# Altium footprint library PCB - RELAY - PANASONIC APAN31nn PA-N.PCBLIB: 1 footprints
Each footprint in its own frame and in the unit in brackets; x right, y up, seen from the top. Pads: shape width x height; smd on the part's side, far side on the other; paste and mask are expansions set on the pad; w line width, h text height; cw(c..) or ccw(c..) is an arc to the next point about the centre after c.
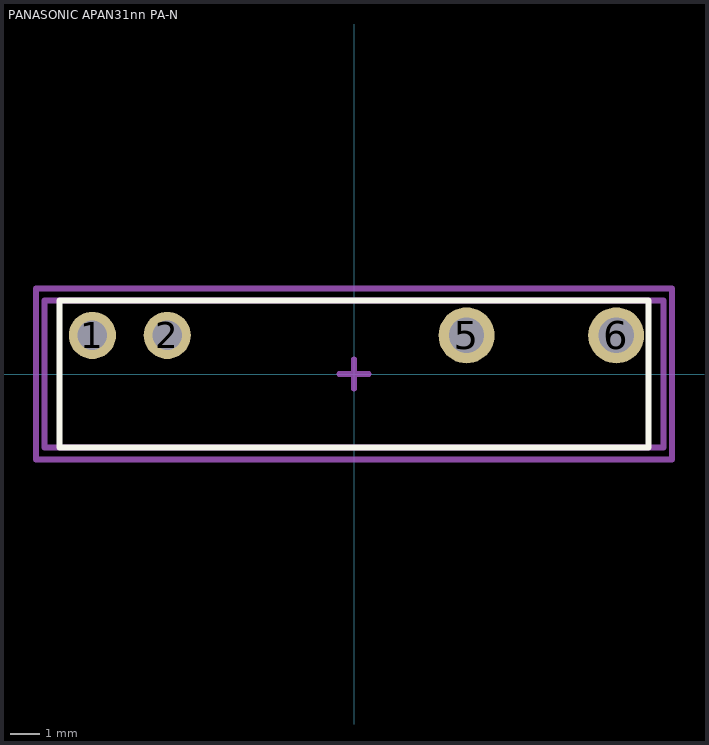
[diagram p0: the footprint, top view; thin cyan lines are the x and y axes]

## PANASONIC APAN31nn PA-N [mm] "1 Form A 5 A, Slim power relay"
height 12.8
pads (4):
  round 1.6 hole 1: 1(-8.88,1.31) 2(-6.34,1.31)
  round 1.9 hole 1.2: 5(3.82,1.31) 6(8.9,1.31)
Top Overlay:
  lines w0.2: -10,-2.5 10,-2.5 10,2.5 -10,2.5 -10,-2.5
Top Assembly:
  lines w0.2: -10.5,-2.5 -10.5,2.5 10.5,2.5 10.5,-2.5 -10.5,-2.5
Top Courtyard (Mech15):
  lines w0.2: -0.5,0 0.5,0 ; 0,-0.5 0,0.5 ; -10.8,-2.9 10.8,-2.9 10.8,2.9 -10.8,2.9 -10.8,-2.9
3D body "Panasonic APAN31nn.step": height 12.8, standoff -3.5, extent -10.5,-2.5 10.5,2.5